# Altium footprint library AudioJack.PcbLib: 1 footprints
Each footprint in its own frame and in the unit in brackets; x right, y up, seen from the top. Pads: shape width x height; smd on the part's side, far side on the other; paste and mask are expansions set on the pad; w line width, h text height; cw(c..) or ccw(c..) is an arc to the next point about the centre after c.
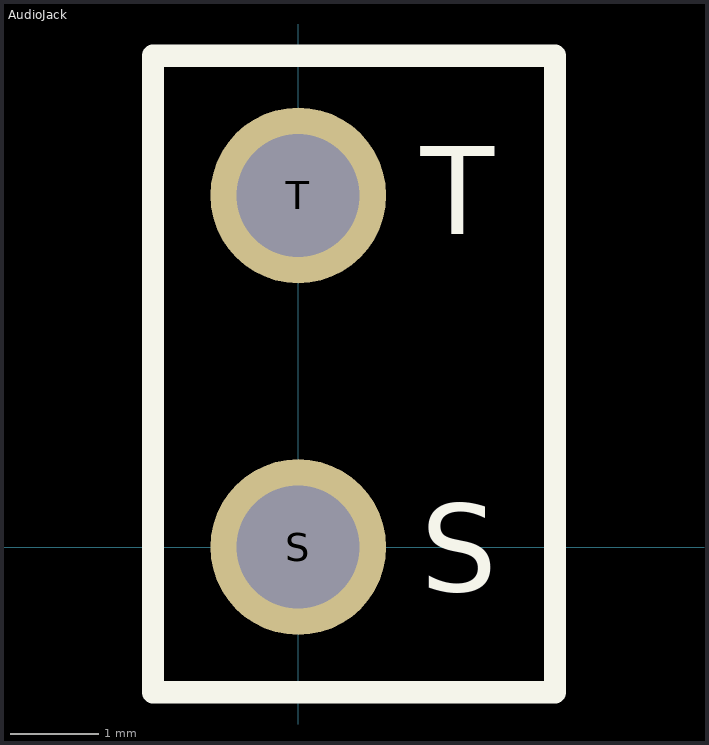
[diagram p0: the footprint, top view; thin cyan lines are the x and y axes]

## AudioJack [mm]
pads (2):
  round 2 hole 1.4: S(0,0) T(0,4)
Top Overlay:
  lines w0.254: -1.651,-1.651 2.921,-1.651 2.921,5.588 -1.651,5.588 -1.651,-1.651
  text "S" at 1.397,-0.508 h1
  text "T" at 1.397,3.556 h1